# Altium schematic symbol library Tu dien.SchLib: 45 symbols
Pins are listed as number, name and electrical type; pins without a type are passive.

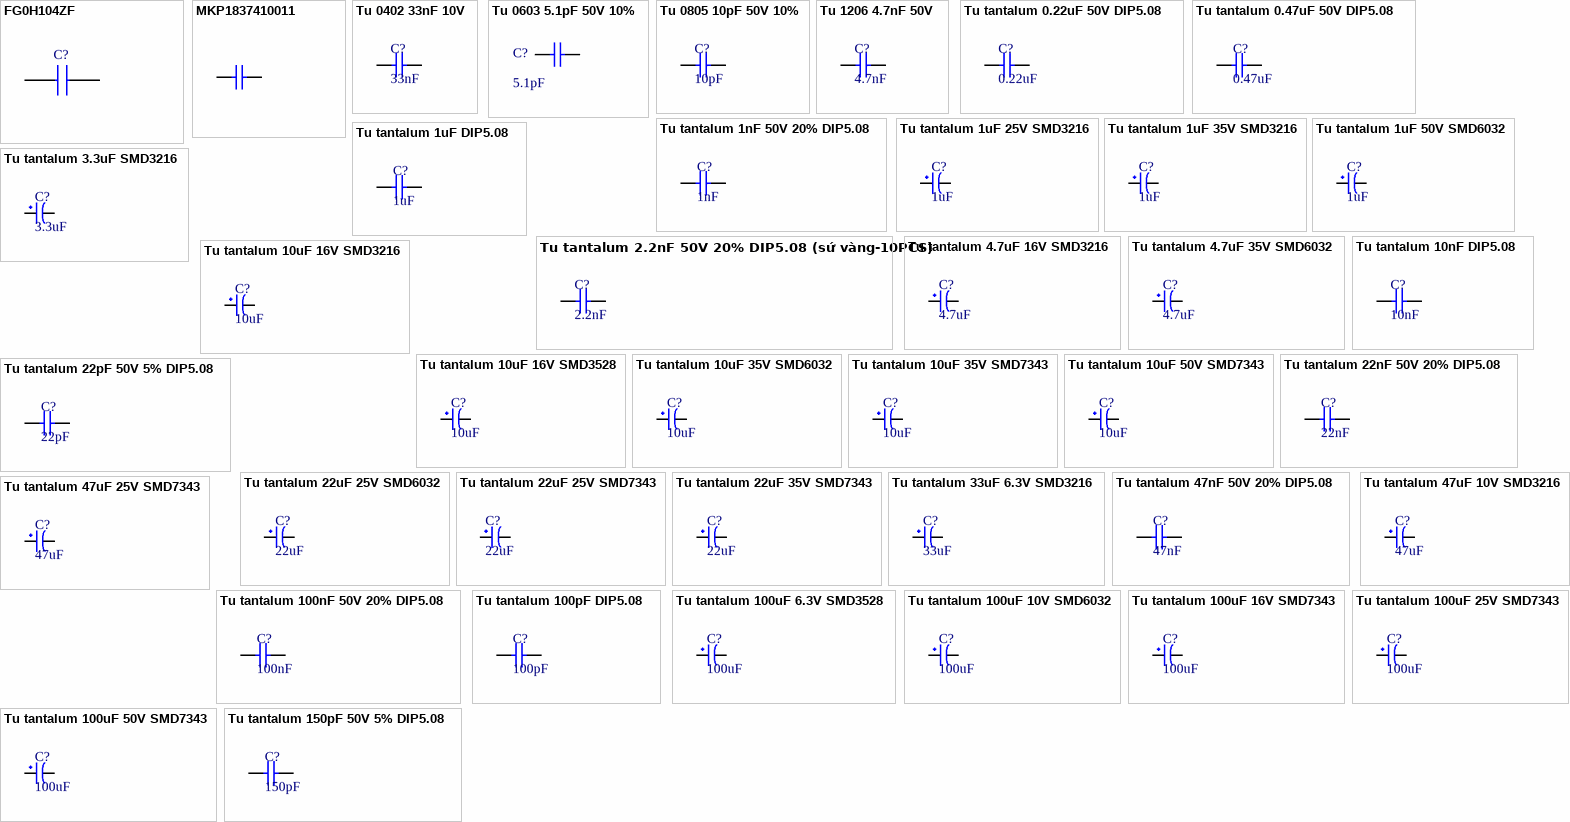
[diagram p0: symbols FG0H104ZF to Tu tantalum 150pF 50V 5% DIP5.08]

## FG0H104ZF
designator C?
FG, Supercapacitors, Radial Pin, 0.1 F, -20/+80%, 5.5 VDC, 70C, -25C, 70C, Pin Leads, 0.15, 1.3 g, 11mm, 6.5mm, Lead Spacing = 5.08mm, 1600; Manufacturer_Name: KEMET; Manufacturer_Part_Number: FG0H104ZF; Mouser Part Number: 80-FG0H104ZF; Mouser Price/Stock: https://www.mouser.co.uk/ProductDetail/KEMET/FG0H104ZF?qs=iaWy59%2Fd4KAdnl%2FEESuEBg%3D%3D; Arrow Part Number: FG0H104ZF; Arrow Price/Stock: https://www.arrow.com/en/products/fg0h104zf/kemet-corporation?region=nac; Mouser Testing Part Number: *; Mouser Testing Price/Stock: *; Datasheet Link: https://content.kemet.com/datasheets/KEM_S6013_FG.pdf; Geometry.Height: 6.5mm
footprint CAPPRD508W114D1100H650
pins: 1 +, 2 -

## MKP1837410011
designator C?
Vishay MKP 1837 100nF Polypropylene Film Capacitor 100 V dc, 63 V ac +/-1%, Through Hole; Geometry.Height: 11mm; Manufacturer_Name: Vishay; Manufacturer_Part_Number: MKP1837410011; Mouser Part Number: 75-MKP1837410011; Mouser Price/Stock: https://www.mouser.co.uk/ProductDetail/Vishay-Roederstein/MKP1837410011?qs=fgoA9hqHNFdbvoDb3kBZqA%3D%3D; Arrow Part Number: MKP1837410011; Arrow Price/Stock: https://www.arrow.com/en/products/mkp1837410011/vishay; Mouser Testing Part Number: *; Mouser Testing Price/Stock: *; Datasheet Link: https://www.vishay.com/docs/26017/mkp1837.pdf
footprint MKP1837410011
footprint MKP1837410011
pins: 1, 2

## Tu 0402 33nF 10V
designator C?, comment 33nF
Dán; Don_Vi: Con; So_Chan: 2; Ten_Linh_Kien: Tụ 0402 33nF X7R 10V GRM155R71A333KA01D; Ma_Hang: MH007853; Chung_Loai: Dán; Kieu_Chan: *
footprint tu 0402
pins: 1, 2

## Tu 0603 5.1pF 50V 10%
designator C?, comment 5.1pF
Dán; Don_Vi: Con; So_Chan: 2; Ten_Linh_Kien: Tụ 0603 5.1P 50V 10%; Ma_Hang: MH004572; Chung_Loai: Dán; Kieu_Chan: *
footprint tu 0603 (Chip Capacitor, 2-Leads, Body 1,60x0,80mm, IPC Medium Density)
pins: 1, 2

## Tu 0805 10pF 50V 10%
designator C?, comment 10pF
Dán; Don_Vi: Con; So_Chan: 2; Ten_Linh_Kien: Tụ 0805 10P 10% 50V; Ma_Hang: MH004554; Chung_Loai: Dán; Kieu_Chan: *
footprint tu 0805 (Compoment SMD 80x50mil)
pins: 1, 2

## Tu 1206 4.7nF 50V
designator C?, comment 4.7nF
Dán; Don_Vi: Con; So_Chan: 2; Ten_Linh_Kien: Tụ 1206 4.7nF 50V NPO; Ma_Hang: MH007538; Chung_Loai: Dán; Kieu_Chan: *
footprint tu 1206
pins: 1, 2

## Tu tantalum 0.22uF 50V DIP5.08
designator C?, comment 0.22uF
Cắm; Don_Vi: Con; So_Chan: 2; Ten_Linh_Kien: Tụ tantalum 224-0.22uF 50V DIP5.08 sứ vàng; Ma_Hang: MH007473; Chung_Loai: Cắm; Kieu_Chan: *
footprint tu tantalum dip5.08
pins: 1, 2

## Tu tantalum 0.47uF 50V DIP5.08
designator C?, comment 0.47uF
Cắm; Don_Vi: Con; So_Chan: 2; Ten_Linh_Kien: Tụ tantalum 0.47uF 474 50V 5.08mm (sứ vàng); Ma_Hang: MH007469; Chung_Loai: Cắm; Kieu_Chan: *
footprint tu tantalum dip5.08
pins: 1, 2

## Tu tantalum 1nF 50V 20% DIP5.08
designator C?, comment 1nF
Cắm; Don_Vi: Con; So_Chan: 2; Ten_Linh_Kien: Tụ tantalum 102-1nF 50V 20% DIP5.08 (sứ vàng)(10PCS); Ma_Hang: MH003954; Chung_Loai: Cắm; Kieu_Chan: *
footprint tu tantalum dip5.08
pins: 1, 2

## Tu tantalum 1uF 25V SMD3216
designator C?, comment 1uF
Dán; Don_Vi: Con; So_Chan: 2; Ten_Linh_Kien: Tụ tantalum 105E-1uF 25V SMD3216; Ma_Hang: MH007472; Chung_Loai: Dán; Kieu_Chan: *
footprint tu tantalum smd3216
pins: 1, 2

## Tu tantalum 1uF 35V SMD3216
designator C?, comment 1uF
Dán; Don_Vi: Con; So_Chan: 2; Ten_Linh_Kien: Tụ tantalum 105V-1uF 35V SMD3216; Ma_Hang: MH007471; Chung_Loai: Dán; Kieu_Chan: *
footprint tu tantalum smd3216
pins: 1, 2

## Tu tantalum 1uF 50V SMD6032
designator C?, comment 1uF
Dán; Don_Vi: Con; So_Chan: 2; Ten_Linh_Kien: Tụ tantalum 105T-1uF 50V SMD6032; Ma_Hang: MH008400; Chung_Loai: Dán; Kieu_Chan: *
footprint tu tantalum smd6032
pins: 1, 2

## Tu tantalum 1uF DIP5.08
designator C?, comment 1uF
Cắm; Don_Vi: Con; So_Chan: 2; Ten_Linh_Kien: Tụ tantalum 105-1uF DIP5.08 sứ vàng; Ma_Hang: MH007470; Chung_Loai: Cắm; Kieu_Chan: *
footprint tu tantalum dip5.08
pins: 1, 2

## Tu tantalum 2.2nF 50V 20% DIP5.08 (sứ vàng-10PCS)
designator C?, comment 2.2nF
Cắm; Don_Vi: Con; So_Chan: 2; Ten_Linh_Kien: Tụ tantalum 222-2.2nF 50V 20% DIP5.08 (sứ vàng-10PCS); Ma_Hang: MH003962; Chung_Loai: Cắm; Kieu_Chan: *
footprint tu tantalum dip5.08
pins: 1, 2

## Tu tantalum 3.3uF SMD3216
designator C?, comment 3.3uF
Dán; Don_Vi: Con; So_Chan: 2; Ten_Linh_Kien: Tụ tantalum 335-3.3uF SMD3216 (E335); Ma_Hang: MH008673; Chung_Loai: Dán; Kieu_Chan: *
footprint tu tantalum smd3216
pins: 1, 2

## Tu tantalum 4.7uF 16V SMD3216
designator C?, comment 4.7uF
Dán; Don_Vi: Con; So_Chan: 2; Ten_Linh_Kien: Tụ tantalum 475C-4.7uF 16V SMD3216; Ma_Hang: MH008686; Chung_Loai: Dán; Kieu_Chan: *
footprint tu tantalum smd3216
pins: 1, 2

## Tu tantalum 4.7uF 35V SMD6032
designator C?, comment 4.7uF
Dán; Don_Vi: Con; So_Chan: 2; Ten_Linh_Kien: Tụ tantalum 475V-4.7uF 35V SMD6032; Ma_Hang: MH008687; Chung_Loai: Dán; Kieu_Chan: *
footprint tu tantalum smd6032
pins: 1, 2

## Tu tantalum 10nF DIP5.08
designator C?, comment 10nF
Cắm; Don_Vi: Con; So_Chan: 2; Ten_Linh_Kien: Tụ tantalum 103-10nF DIP5.08 (sứ vàng)(10PCS); Ma_Hang: MH002105; Chung_Loai: Cắm; Kieu_Chan: *
footprint tu tantalum dip5.08
pins: 1, 2

## Tu tantalum 10uF 16V SMD3216
designator C?, comment 10uF
Dán; Don_Vi: Con; So_Chan: 2; Ten_Linh_Kien: Tụ tantalum 106C-10uF 16V SMD3216; Ma_Hang: MH001954; Chung_Loai: Dán; Kieu_Chan: *
footprint tu tantalum smd3216
pins: 1, 2

## Tu tantalum 10uF 16V SMD3528
designator C?, comment 10uF
Dán; Don_Vi: Con; So_Chan: 2; Ten_Linh_Kien: Tụ tantalum 106C-10uF 16V SMD3528; Ma_Hang: MH007474; Chung_Loai: Dán; Kieu_Chan: *
footprint tu tantalum smd3528
pins: 1, 2

## Tu tantalum 10uF 35V SMD6032
designator C?, comment 10uF
Dán; Don_Vi: Con; So_Chan: 2; Ten_Linh_Kien: Tụ tantalum 106V-10uF 35V SMD6032; Ma_Hang: MH007593; Chung_Loai: Dán; Kieu_Chan: *
footprint tu tantalum smd6032
pins: 1, 2

## Tu tantalum 10uF 35V SMD7343
designator C?, comment 10uF
Dán; Don_Vi: Con; So_Chan: 2; Ten_Linh_Kien: Tụ tantalum 106V-10uF 35V SMD7343; Ma_Hang: MH001955; Chung_Loai: Dán; Kieu_Chan: *
footprint tu tantalum smd7343
pins: 1, 2

## Tu tantalum 10uF 50V SMD7343
designator C?, comment 10uF
Dán; Don_Vi: Con; So_Chan: 2; Ten_Linh_Kien: Tụ tantalum 106T-10uF 50V SMD7343; Ma_Hang: MH006532; Chung_Loai: Dán; Kieu_Chan: *
footprint tu tantalum smd7343
pins: 1, 2

## Tu tantalum 22nF 50V 20% DIP5.08
designator C?, comment 22nF
Cắm; Don_Vi: Con; So_Chan: 2; Ten_Linh_Kien: Tụ tantalum 223-22nF 50V 20% DIP5.08 sứ vàng; Ma_Hang: MH007977; Chung_Loai: Cắm; Kieu_Chan: *
footprint tu tantalum dip5.08
pins: 1, 2

## Tu tantalum 22pF 50V 5% DIP5.08
designator C?, comment 22pF
Cắm; Don_Vi: Con; So_Chan: 2; Ten_Linh_Kien: Tụ tantalum 220-22P 50V 5% DIP5.08 (sứ vàng-10PCS); Ma_Hang: MH004710; Chung_Loai: Cắm; Kieu_Chan: *
footprint tu tantalum dip5.08
pins: 1, 2

## Tu tantalum 22uF 25V SMD6032
designator C?, comment 22uF
Dán; Don_Vi: Con; So_Chan: 2; Ten_Linh_Kien: Tụ tantalum 226E-22uF 25V SMD6032; Ma_Hang: MH002651; Chung_Loai: Dán; Kieu_Chan: *
footprint tu tantalum smd6032
pins: 1, 2

## Tu tantalum 22uF 25V SMD7343
designator C?, comment 22uF
Dán; Don_Vi: Con; So_Chan: 2; Ten_Linh_Kien: Tụ tantalum 226E-22uF 25V SMD7343; Ma_Hang: MH007975; Chung_Loai: Dán; Kieu_Chan: *
footprint tu tantalum smd7343
pins: 1, 2

## Tu tantalum 22uF 35V SMD7343
designator C?, comment 22uF
Dán; Don_Vi: Con; So_Chan: 2; Ten_Linh_Kien: Tụ tantalum 226V-22uF 35V SMD7343; Ma_Hang: MH007976; Chung_Loai: Dán; Kieu_Chan: *
footprint tu tantalum smd7343
pins: 1, 2

## Tu tantalum 33uF 6.3V SMD3216
designator C?, comment 33uF
Dán; Don_Vi: Con; So_Chan: 2; Ten_Linh_Kien: Tụ tantalum J336-33uF 6.3V SMD3216; Ma_Hang: MH008674; Chung_Loai: Dán; Kieu_Chan: *
footprint tu tantalum smd3216
pins: 1, 2

## Tu tantalum 47nF 50V 20% DIP5.08
designator C?, comment 47nF
Cắm; Don_Vi: Con; So_Chan: 2; Ten_Linh_Kien: Tụ tantalum 473-47nF 50V 20% DIP5.08 (sứ vàng-10PCS); Ma_Hang: MH003965; Chung_Loai: Cắm; Kieu_Chan: *
footprint tu tantalum dip5.08
pins: 1, 2

## Tu tantalum 47uF 10V SMD3216
designator C?, comment 47uF
Dán; Don_Vi: Con; So_Chan: 2; Ten_Linh_Kien: Tụ tantalum 476A-47uF 10V SMD3216; Ma_Hang: MH007497; Chung_Loai: Dán; Kieu_Chan: *
footprint tu tantalum smd3216
pins: 1, 2

## Tu tantalum 47uF 25V SMD7343
designator C?, comment 47uF
Dán; Don_Vi: Con; Ten_Linh_Kien: Tụ tantalum 476E-47uF 25V SMD7343; Ma_Hang: MH002162; So_Chan: 2; Chung_Loai: Dán; Kieu_Chan: *
footprint tu tantalum smd7343
pins: 1, 2

## Tu tantalum 100nF 50V 20% DIP5.08
designator C?, comment 100nF
Cắm; Don_Vi: Con; So_Chan: 2; Ten_Linh_Kien: Tụ tantalum 104-100nF 50V 20% DIP5.08 (sứ vàng)(10PCS); Ma_Hang: MH003955; Chung_Loai: Cắm; Kieu_Chan: *
footprint tu tantalum dip5.08
pins: 1, 2

## Tu tantalum 100pF DIP5.08
designator C?, comment 100pF
Cắm; Don_Vi: Con; So_Chan: 2; Ten_Linh_Kien: Tụ tantalum 101-100pF DIP5.08 (sứ vàng); Ma_Hang: MH006964; Chung_Loai: Cắm; Kieu_Chan: *
footprint tu tantalum dip5.08
pins: 1, 2

## Tu tantalum 100uF 6.3V SMD3528
designator C?, comment 100uF
Dán; Don_Vi: Con; So_Chan: 2; Ten_Linh_Kien: Tụ tantalum 107J-100uF 6.3V SMD3528; Ma_Hang: MH007595; Chung_Loai: Dán; Kieu_Chan: *
footprint tu tantalum smd3528
pins: 1, 2

## Tu tantalum 100uF 10V SMD6032
designator C?, comment 100uF
Dán; Don_Vi: Con; So_Chan: 2; Ten_Linh_Kien: Tụ tantalum 107A-100uF 10V SMD6032; Ma_Hang: MH007594; Chung_Loai: Dán; Kieu_Chan: *
footprint tu tantalum smd6032
pins: 1, 2

## Tu tantalum 100uF 16V SMD7343
designator C?, comment 100uF
Dán; Don_Vi: Con; So_Chan: 2; Ten_Linh_Kien: Tụ tantalum 107C-100uF 16V SMD7343; Ma_Hang: MH002346; Chung_Loai: Dán; Kieu_Chan: *
footprint tu tantalum smd7343
pins: 1, 2

## Tu tantalum 100uF 25V SMD7343
designator C?, comment 100uF
Dán; Don_Vi: Con; So_Chan: 2; Ten_Linh_Kien: Tụ tantalum 107E-100uF 25V SMD7343; Ma_Hang: MH002347; Chung_Loai: Dán; Kieu_Chan: *
footprint tu tantalum smd7343
pins: 1, 2

## Tu tantalum 100uF 50V SMD7343
designator C?, comment 100uF
Dán; Don_Vi: Con; So_Chan: 2; Ten_Linh_Kien: Tụ tantalum 107T-100uF 50V SMD7343; Ma_Hang: MH008401; Chung_Loai: Dán; Kieu_Chan: *
footprint tu tantalum smd7343
pins: 1, 2

## Tu tantalum 150pF 50V 5% DIP5.08
designator C?, comment 150pF
Cắm; Don_Vi: Con; So_Chan: 2; Ten_Linh_Kien: Tụ tantalum 151-150P 50V 5% DIP5.08 (sứ vàng) (10PCS); Ma_Hang: MH003964; Chung_Loai: Cắm; Kieu_Chan: *
footprint tu tantalum dip5.08
pins: 1, 2

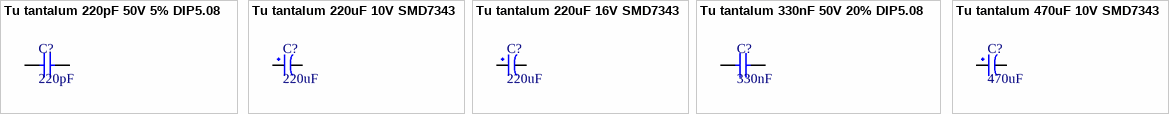
[diagram p1: symbols Tu tantalum 220pF 50V 5% DIP5.08 to Tu tantalum 470uF 10V SMD7343]

## Tu tantalum 220pF 50V 5% DIP5.08
designator C?, comment 220pF
Cắm; Don_Vi: Con; So_Chan: 2; Ten_Linh_Kien: Tụ tantalum 221-220P 50V 5% DIP5.08 (sứ vàng-10PCS); Ma_Hang: MH008696; Chung_Loai: Cắm; Kieu_Chan: *
footprint tu tantalum dip5.08
pins: 1, 2

## Tu tantalum 220uF 10V SMD7343
designator C?, comment 220uF
Dán; Don_Vi: Con; So_Chan: 2; Ten_Linh_Kien: Tụ tantalum 227A-220uF 10V SMD 7343; Ma_Hang: MH007496; Chung_Loai: Dán; Kieu_Chan: *
footprint tu tantalum smd7343
pins: 1, 2

## Tu tantalum 220uF 16V SMD7343
designator C?, comment 220uF
Dán; Don_Vi: Con; So_Chan: 2; Ten_Linh_Kien: Tụ tantalum 227C-220uF 16V SMD7343; Ma_Hang: MH002345; Chung_Loai: Dán; Kieu_Chan: *
footprint tu tantalum smd7343
pins: 1, 2

## Tu tantalum 330nF 50V 20% DIP5.08
designator C?, comment 330nF
Cắm; Don_Vi: Con; So_Chan: 2; Ten_Linh_Kien: Tụ tantalum 334-330nF 50V 20% DIP5.08 (sứ vàng) (10PCS); Ma_Hang: MH003963; Chung_Loai: Cắm; Kieu_Chan: *
footprint Tu tantalum dip5.08
pins: 1, 2

## Tu tantalum 470uF 10V SMD7343
designator C?, comment 470uF
Dán; Don_Vi: Con; So_Chan: 2; Ten_Linh_Kien: Tụ tantalum 477A-470uF 10V SMD7343; Ma_Hang: MH001956; Chung_Loai: Dán; Kieu_Chan: *
footprint tu tantalum smd7343
pins: 1, 2